# Altium footprint library MOSFET.PcbLib: 9 footprints
Each footprint in its own frame and in the unit in brackets; x right, y up, seen from the top. Pads: shape width x height; smd on the part's side, far side on the other; paste and mask are expansions set on the pad; w line width, h text height; cw(c..) or ccw(c..) is an arc to the next point about the centre after c.
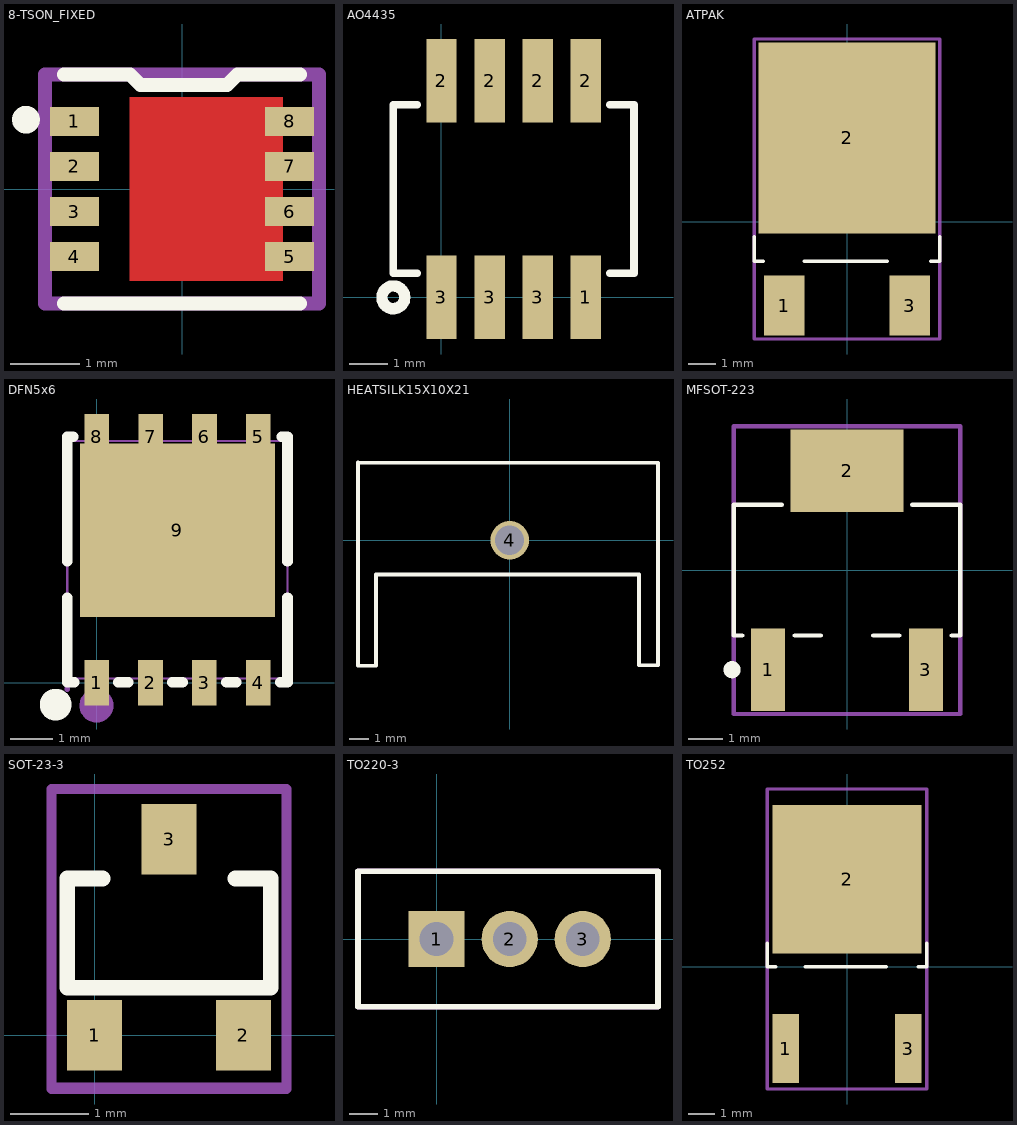
[diagram p0: the footprints below, top view; thin cyan lines are the x and y axes]

## 8-TSON_FIXED [mm] "SON  3.30-mm × 3.30-mm  Plastic Package"
pads (8):
  rect 0.7x0.42 smd: 1(-1.55,0.975) 2(-1.55,0.325) 3(-1.55,-0.325) 4(-1.55,-0.975) 5(1.55,-0.975) 6(1.55,-0.325) 7(1.55,0.325) 8(1.55,0.975)
Top Layer:
  region: -0.75,1.325 1.45,1.325 1.45,-1.325 -0.75,-1.325
Top Overlay:
  circle w0.2: c-2.25,1 r0.1
  lines w0.2: -1.7,-1.65 1.7,-1.65 ; -1.7,1.65 -1,1.65 -0.75,1.65 -0.6,1.5 0.6,1.5 0.65,1.5 0.8,1.65 1.7,1.65
Top Paste:
  region: -0.5,1.1 1.1,1.1 1.1,0.2 -0.5,0.2
  region: -0.5,-0.2 1.1,-0.2 1.1,-1.1 -0.5,-1.1
Top Solder:
  region: -0.75,1.325 1.45,1.325 1.45,-1.325 -0.75,-1.325
Mechanical 13:
  lines w0.2: -1.975,-1.65 1.975,-1.65 1.975,1.65 -1.975,1.65 -1.975,-1.65
  text ".Designator" at -1.85,-0.65 h1.5
3D body "SON40P350X450X100-8N__NA__TEXAS INSTRUMENT__VSON-8__DRB--3DModel-Eagle-1.STEP": height 0.87, standoff -0.03, extent -1.525,-1.5 1.525,1.5

## AO4435 [mm]
pads (8):
  rect 0.8x2.2 smd: 1(3.81,0) 2(0,5.715) 2(1.27,5.715) 2(2.54,5.715) 2(3.81,5.715) 3(0,0) 3(1.27,0) 3(2.54,0)
Top Overlay:
  circle w0.3: c-1.27,0 r0.3
  lines w0.2: -0.635,0.635 -1.27,0.635 -1.27,2.54 -1.27,5.08 -0.635,5.08 ; 4.445,0.635 5.08,0.635 5.08,5.08 4.445,5.08

## ATPAK [mm]
pads (3):
  rect 1.5x2.2 smd: 1(-2.3,-3.075) 3(2.3,-3.075)
  rect 6.5x7 smd: 2(0,3.075)
Top Overlay:
  lines w0.127: -3.4,-0.55 -3.4,-1.45 -3.075,-1.45 ; -1.575,-1.45 1.475,-1.45 ; 3.075,-1.45 3.4,-1.45 3.4,-0.55
Mechanical 13:
  lines w0.127: -3.4,-4.3 -3.4,6.7 3.4,6.7 3.4,-4.3 -3.4,-4.3
  text ".Designator" at 0.1,-0.1 h1
Mechanical 15:
  lines w0.127: -3.4,-4.3 3.4,-4.3 3.4,6.7 -3.4,6.7 -3.4,-4.3
  text ".Value" at 0.1,-0.1 h1
3D body "User Library-D-PAK.step": height 2.3, standoff 0, extent -3.247,-3.1 3.247,6.4

## DFN5x6 [mm]
pads (9):
  rect 0.58x1.079 smd paste-100 mask+0.05: 1(0,0) 2(1.27,0) 3(2.54,0) 4(3.81,0)
  rect 0.58x1.08 smd paste-100 mask+0.05: 5(3.815,5.8) 6(2.545,5.8) 7(1.275,5.8) 8(0.005,5.8)
  rect 4.6x4.1 smd paste-100 mask+0.05: 9(1.905,3.595)
Top Overlay:
  lines w0.25: -0.695,2.003 -0.695,0.005 -0.524,0.005 ; -0.695,2.868 -0.695,5.805 -0.558,5.805 -0.595,5.805 ; 0.514,0.005 0.746,0.005 ; 1.784,0.005 2.026,0.005 ; 3.064,0.005 3.296,0.005 ; 4.334,0.005 4.505,0.005 4.505,2.003 ; 4.405,5.805 4.368,5.805 4.505,5.805 4.505,2.868
  lines w0.5: -1.093,-0.52 ccw(c-0.968,-0.519) -1.093,-0.518
Top Paste:
  region: 4.197,1.54 4.197,5.65 4.107,5.65 4.107,6.34 3.527,6.34 3.527,5.64 2.847,5.64 2.847,6.34 2.257,6.34 2.257,5.65 1.567,5.65 1.567,6.34 0.987,6.34 0.987,5.65 0.307,5.65 0.307,6.34 -0.283,6.34 -0.283,5.66 -0.293,5.65 -0.393,5.65 -0.393,1.54
  region: 3.515,0.55 4.105,0.55 4.105,-0.54 3.515,-0.54
  region: 2.245,0.55 2.835,0.55 2.835,-0.54 2.245,-0.54
  region: 0.975,0.55 1.565,0.55 1.565,-0.54 0.975,-0.54
  region: -0.295,0.55 0.295,0.55 0.295,-0.54 -0.295,-0.54
Mechanical 6:
  circle w0.4: c-0.005,-0.54 r0.2
Mechanical 15:
  region: -0.27,5.27 4.08,5.27 4.08,1.645 -0.27,1.645
  region: 3.615,5.95 4.015,5.95 4.015,5.27 3.615,5.27
  region: 2.345,5.95 2.745,5.95 2.745,5.27 2.345,5.27
  region: 1.075,5.95 1.475,5.95 1.475,5.27 1.075,5.27
  region: -0.195,5.95 0.205,5.95 0.205,5.27 -0.195,5.27
  region: 4.01,-0.15 3.61,-0.15 3.61,0.4 4.01,0.4
  region: 2.74,-0.15 2.34,-0.15 2.34,0.4 2.74,0.4
  region: 1.47,-0.15 1.07,-0.15 1.07,0.4 1.47,0.4
  region: 0.2,-0.15 -0.2,-0.15 -0.2,0.4 0.2,0.4
  region: -0.632,-0.15 -0.632,-0.125 -0.668,-0.09 -0.717,-0.09 -0.752,-0.125 -0.752,-0.15 -0.752,-0.175 -0.717,-0.21 -0.668,-0.21 -0.632,-0.175
  lines w0.051: -0.693,0.1 4.507,0.1 4.507,5.7 -0.693,5.7 -0.693,0.1

## HEATSILK15X10X21 [mm]
pads (1):
  round 2 hole 1.5: 4(0,0)
Top Overlay:
  lines w0.2: -7.825,4 7.65,4 7.65,-6.45 6.675,-6.45 6.675,-1.775 -6.9,-1.775 -6.9,-6.475 -7.825,-6.475 -7.825,4.025
3D body "tannhiet15x10.step": height 21, standoff -3.4, extent -7.789,-6.495 7.716,4.005

## MFSOT-223 [mm]
height 1.2
pads (3):
  rect 1x2.4 smd: 1(-2.3,-2.9) 3(2.3,-2.9)
  rect 3.3x2.4 smd: 2(0,2.9)
Top Overlay:
  circle w0.25: c-3.35,-2.9 r0.125
  lines w0.127: -3.048,-1.905 -3.302,-1.905 -3.302,1.905 -1.905,1.905 ; -1.524,-1.905 -0.762,-1.905 ; 0.762,-1.905 1.524,-1.905 ; 1.905,1.905 3.302,1.905 3.302,-1.651 3.302,-1.905 3.048,-1.905
Mechanical 13:
  lines w0.127: -3.302,-4.191 -3.302,4.191 3.302,4.191 3.302,-4.191 -3.302,-4.191
  text ".Designator" at -2.286,-0.635 h1.5
Mechanical 15:
  lines w0.127: -3.302,-4.191 -3.302,4.191 3.302,4.191 3.302,-4.191 -3.302,-4.191
  text ".Comment" at -2.286,-0.635 h1
3D body "SW3DPS-SOT-223-DEFAULT.step": height 1.68, standoff 0, extent -3.25,-3.556 3.25,3.404

## SOT-23-3 [mm]
pads (3):
  rect 0.7x0.9 smd: 1(0,0) 2(1.9,0) 3(0.95,2.5)
Top Overlay:
  lines w0.2: 0.1,2 -0.35,2 -0.35,0.603 2.25,0.603 2.25,2 1.8,2
Mechanical 13:
  lines w0.127: -0.55,-0.667 -0.55,3.143 2.45,3.143 2.45,-0.667 -0.55,-0.667
  text ".Designator" at 1.204,-0.54 h1
Mechanical 15:
  lines w0.127: -0.55,-0.689 -0.55,3.143 2.45,3.143 2.45,-0.689 -0.55,-0.689
  text ".Comment" at 1.204,-0.54 h1
3D body "SW3DPS-SOT-23-DEFAULT.STEP": height 1.06, standoff -0.04, extent -0.55,-0.012 2.45,2.488

## TO220-3 [mm]
pads (3):
  rect 2x2 hole 1.2: 1(0,0)
  round 2 hole 1.2: 2(2.6,0) 3(5.2,0)
Top Overlay:
  lines w0.2: -2.794,-2.413 7.874,-2.413 7.874,2.413 -2.794,2.413 -2.794,-2.413
Mechanical 13:
  lines w0.2: -2.794,-2.413 -2.794,2.413 7.874,2.413 7.874,-2.413 -2.794,-2.413
  text ".Designator" at 0.29,-0.331 h1
Mechanical 15:
  lines w0.2: -2.794,-2.413 -2.794,2.413 7.874,2.413 7.874,-2.413 -2.794,-2.413
  text ".Comment" at 0.417,-0.331 h1
3D body "TO-220FP.stp": height 21, standoff -1.2, extent -2.756,-2.413 7.836,2.388

## TO252 [mm]
pads (3):
  rect 1x2.6 smd: 1(-2.3,-3.075) 3(2.3,-3.075)
  rect 5.6x5.6 smd: 2(0,3.3)
Top Overlay:
  lines w0.127: -3,0.9 -3,0 -2.675,0 ; -1.575,0 1.475,0 ; 2.675,0 3,0 3,0.9
Mechanical 13:
  lines w0.127: -3,-4.6 -3,6.7 3,6.7 3,-4.6 -3,-4.6
  text ".Designator" at 0.2,-2.5 h1
Mechanical 15:
  lines w0.127: -3,-4.6 3,-4.6 3,6.7 -3,6.7 -3,-4.6
  text ".Value" at 0.1,-0.1 h1
3D body "User Library-D-PAK.step": height 2.3, standoff 0, extent -3.247,-3.1 3.247,6.4